# Altium schematic symbol library TLP188_TPL_E.SchLib: 1 symbol
Pins are listed as number, name and electrical type; pins without a type are passive.

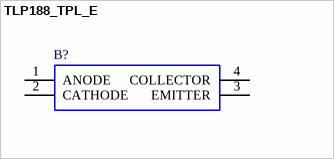
[diagram p0: symbol TLP188_TPL_E]

## TLP188_TPL_E
designator B?
Transistor Output Optocouplers X36 PBF Transistor Cplr DC I/P VCEO350V; Manufacturer_Name: Toshiba; Manufacturer_Part_Number: TLP188(TPL,E; Geometry.Height: 2.2mm; Mouser Part Number: 757-TLP188(TPLE; Mouser Price/Stock: https://www.mouser.co.uk/ProductDetail/Toshiba/TLP188TPLE?qs=HVbQlW5zcXVmqo5Az0Pkvg%3D%3D; Arrow Part Number: TLP188(TPL,E; Arrow Price/Stock: https://www.arrow.com/en/products/tlp188-tple/toshiba; Mouser Testing Part Number: *; Mouser Testing Price/Stock: *; Datasheet Link: http://toshiba.semicon-storage.com/info/docget.jsp?did=13932&prodName=TLP188
footprint SOP254P700X220-4N
pins: 1 ANODE, 2 CATHODE, 3 EMITTER, 4 COLLECTOR